# Altium footprint library SMD TO.PcbLib: 1 footprints
Each footprint in its own frame and in the unit in brackets; x right, y up, seen from the top. Pads: shape width x height; smd on the part's side, far side on the other; paste and mask are expansions set on the pad; w line width, h text height; cw(c..) or ccw(c..) is an arc to the next point about the centre after c.
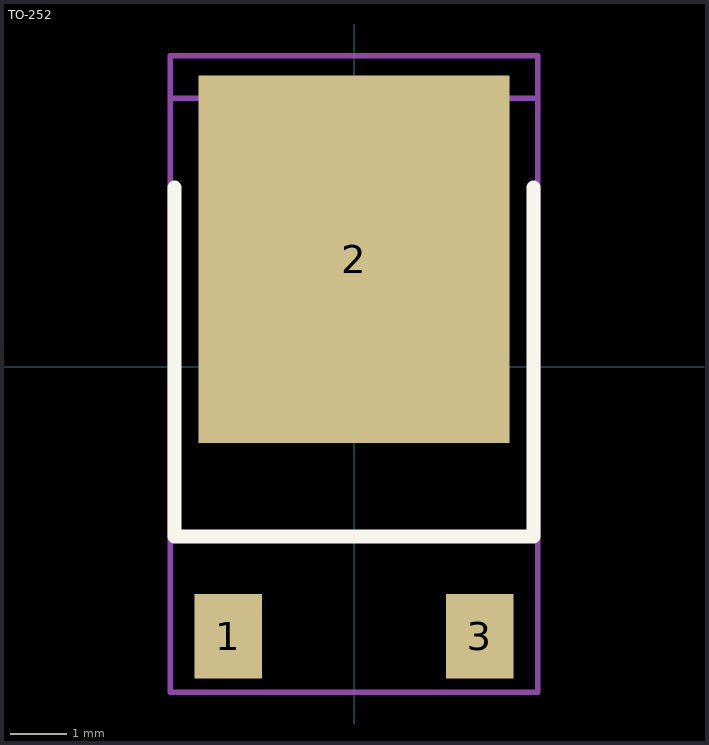
[diagram p0: the footprint, top view; thin cyan lines are the x and y axes]

## TO-252 [mm] "КТ-89, DPAK, SOT-428"
height 2.5
pads (3):
  rect 1.2x1.5 smd: 1(-2.222,-4.763) 3(2.222,-4.763)
  rect 5.5x6.5 smd: 2(0,1.905)
Top Overlay:
  lines w0.25: -3.175,3.175 -3.175,-3 3.175,-3 3.175,3.175
Mechanical 7:
  lines w0.05: -3.25,-5.75 -3.25,5.5 3.25,5.5 3.25,-5.75 -3.25,-5.75
  text ".Designator" at -2.25,-0.5 h1.5
Mechanical 13:
  lines w0.1: -3.25,-3 -3.25,4.75 3.25,4.75 3.25,-3 -3.25,-3
Mechanical 15:
  lines w0.1: -0.5,0 0.5,0 ; 0,-0.5 0,0.5 ; -3.25,-5.75 -3.25,5.5 3.25,5.5 3.25,-5.75 -3.25,-5.75
3D body "D-Pak (TO-252AA).STEP": height 2.43, standoff 0, extent -3.25,-5.28 3.25,4.86